# Altium footprint library PCB - LEADLESS - QFN - PSEMI QFN-12 3x3x0.5.PcbLib: 1 footprints
Each footprint in its own frame and in the unit in brackets; x right, y up, seen from the top. Pads: shape width x height; smd on the part's side, far side on the other; paste and mask are expansions set on the pad; w line width, h text height; cw(c..) or ccw(c..) is an arc to the next point about the centre after c.
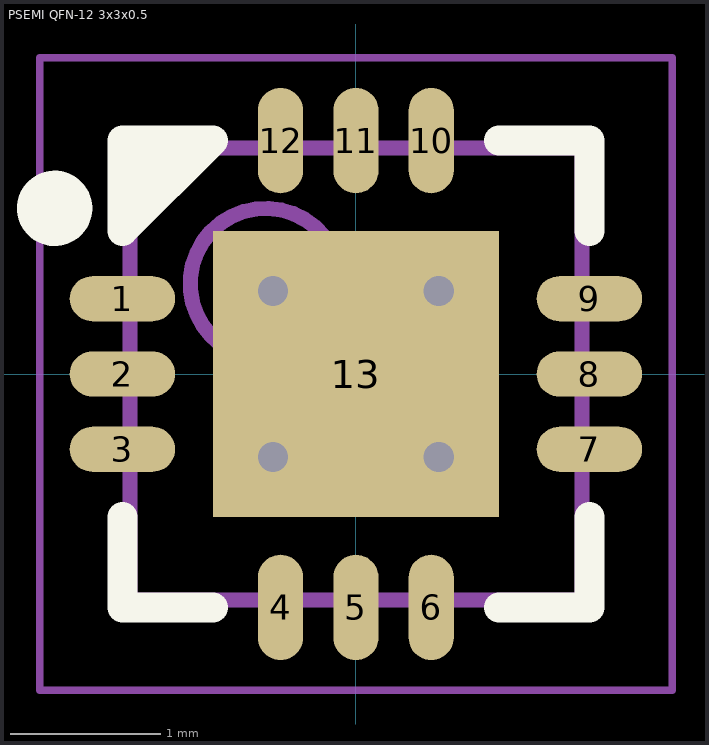
[diagram p0: the footprint, top view; thin cyan lines are the x and y axes]

## PSEMI QFN-12 3x3x0.5 [mm] "QFN, 12-Leads, Body 3.00x3.00mm, Pitch 0.50mm, Thermal Pad 1.90x1.90mm"
height 0.5
pads (13):
  oval 0.7x0.3 smd: 1(-1.55,0.5) 2(-1.55,0) 3(-1.55,-0.5) 7(1.55,-0.5) 8(1.55,0) 9(1.55,0.5)
  oval 0.3x0.7 smd: 4(-0.5,-1.55) 5(0,-1.55) 6(0.5,-1.55) 10(0.5,1.55) 11(0,1.55) 12(-0.5,1.55)
  rect 1.9x1.9 smd: 13(0,0)
via -0.55,0.55 diameter 0.5 hole 0.2
via 0.55,0.55 diameter 0.5 hole 0.2
via -0.55,-0.55 diameter 0.5 hole 0.2
via 0.55,-0.55 diameter 0.5 hole 0.2
Top Overlay:
  circle w0.25: c-2,1.1 r0.125
  region: -1.55,0.95 -1.55,1.55 -0.95,1.55
  lines w0.2: -1.55,-0.95 -1.55,-1.55 -0.95,-1.55 ; 0.95,-1.55 1.55,-1.55 1.55,-0.95 ; 0.95,1.55 1.55,1.55 1.55,0.95 ; -1.55,0.95 -0.95,1.55 -1.55,1.55 -1.55,0.95
Mechanical 13:
  circle w0.1: c-0.6,0.6 r0.5
  lines w0.1: -1.5,-1.5 -1.5,1.5 1.5,1.5 1.5,-1.5 -1.5,-1.5
Mechanical 15:
  lines w0.05: -2.1,-2.1 -2.1,2.1 2.1,2.1 2.1,-2.1 -2.1,-2.1
  lines w0.1: -0.5,0 0.5,0 ; 0,-0.5 0,0.5
3D body "PSEMI QFN-12 3x3x0.5.step": height 0.5, standoff 0, extent -1.51,-1.51 1.51,1.51